# Altium schematic symbol library Module.SchLib: 11 symbols
Pins are listed as number, name and electrical type; pins without a type are passive.

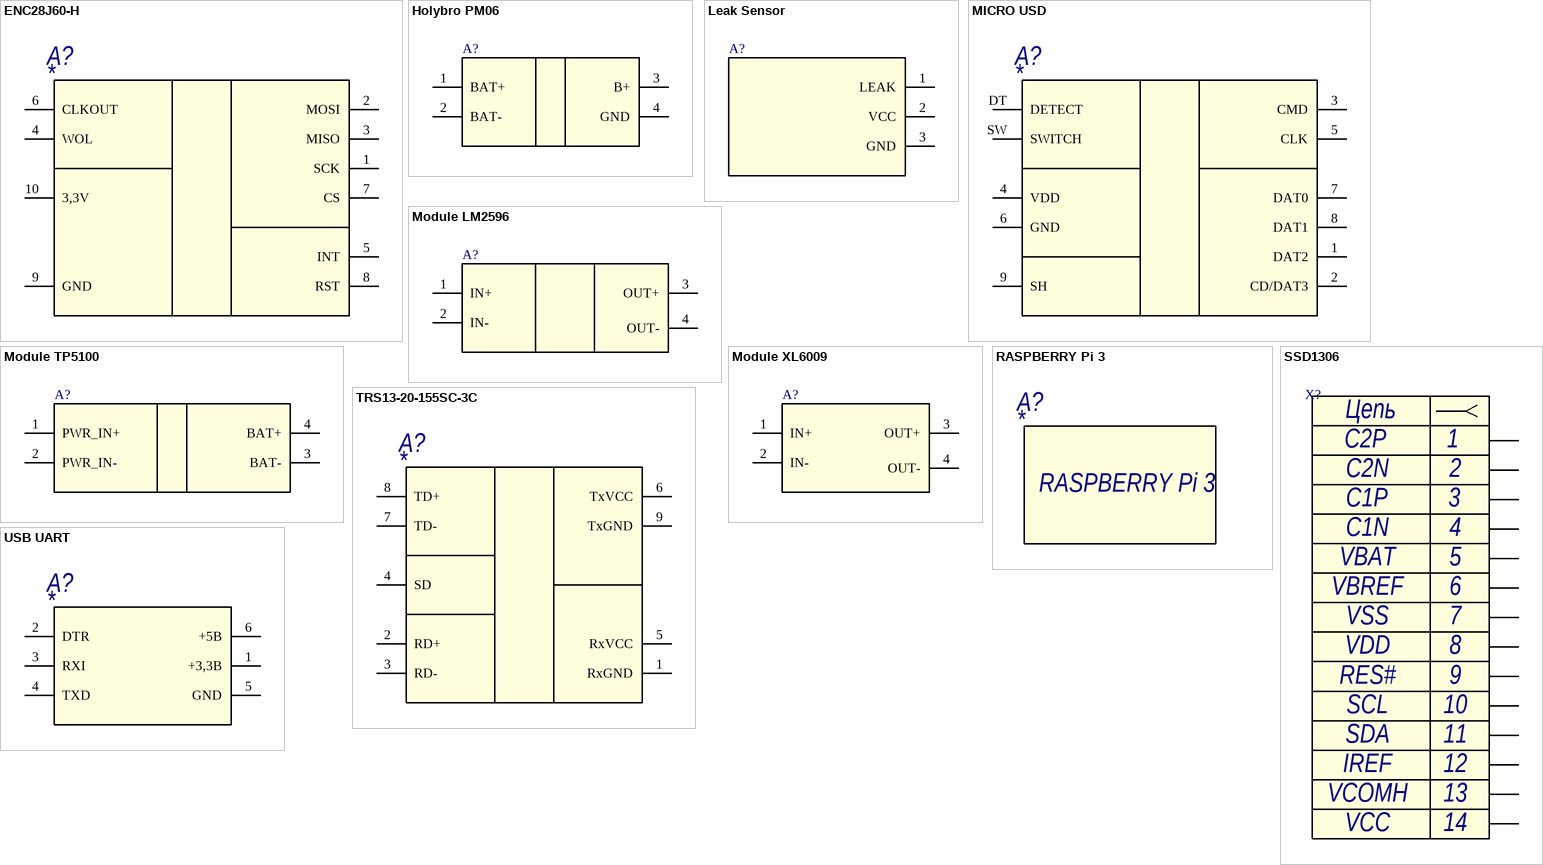
[diagram p0: symbols ENC28J60-H to USB UART]

## ENC28J60-H
designator A?
ETHERNET MODULE ENC28J60-H
pins: 1 SCK (power), 2 MOSI (power), 3 MISO (power), 4 WOL (power), 5 INT (power), 6 CLKOUT (power), 7 CS (power), 8 RST (power), 9 GND (power), 10 3,3V (power)

## Holybro PM06
designator A?
Модуль питания Holybro PM06 v2 micro
pins: 1 BAT+ (power), 2 BAT- (power), 3 B+ (power), 4 GND (power)

## Leak Sensor
designator A?
The SOS Leak Sensor
pins: 1 LEAK (power), 2 VCC (power), 3 GND (power)

## MICRO USD
designator A?
MICRO USD
pins: 1 DAT2 (power), 2 CD/DAT3 (power), 3 CMD (power), 4 VDD (power), 5 CLK (power), 6 GND (power), 7 DAT0 (power), 8 DAT1 (power), 9 SH (power), DT DETECT (power), SW SWITCH (power)

## Module LM2596
designator A?
Low-Dropout Regulator for 5-V to 3.3-V Conversion
footprint module LM2596
pins: 1 IN+ (power), 2 IN- (power), 3 OUT+ (power), 4 OUT- (power)

## Module TP5100
designator A?
2Cells /Single Lithium-ion Battery Charger Module
pins: 1 PWR_IN+ (power), 2 PWR_IN- (power), 3 BAT- (power), 4 BAT+ (power)

## Module XL6009
designator A?
DC-DC step-up converter for 5/32-V to 5/35-V
pins: 1 IN+ (power), 2 IN- (power), 3 OUT+ (power), 4 OUT- (power)

## RASPBERRY Pi 3
designator A?
RASPBERRY Pi 3

## SSD1306
designator X?
Разъем - 14 конт. розетка
pins: 1, 2, 3, 4, 5, 6, 7, 8, 9, 10, 11, 12, 13, 14
text: Цепь; C2P; C2N; C1P; C1N; VBAT; VBREF; VSS; VDD; RES#; SCL; SDA; IREF; VCOMH; VCC

## TRS13-20-155SC-3C
designator A?
Single Fiber Bi-Directional MM Transceiver
pins: 1 RxGND (power), 2 RD+ (power), 3 RD- (power), 4 SD (power), 5 RxVCC (power), 6 TxVCC (power), 7 TD- (power), 8 TD+ (power), 9 TxGND (power)

## USB UART
designator A?
USB UART module cp2102
pins: 1 +3,3B (power), 2 DTR (power), 3 RXI (power), 4 TXD (power), 5 GND (power), 6 +5B (power)